# Altium footprint library Arduino_Duo_PCB___Ms.PcbLib: 1 footprints
Each footprint in its own frame and in the unit in brackets; x right, y up, seen from the top. Pads: shape width x height; smd on the part's side, far side on the other; paste and mask are expansions set on the pad; w line width, h text height; cw(c..) or ccw(c..) is an arc to the next point about the centre after c.
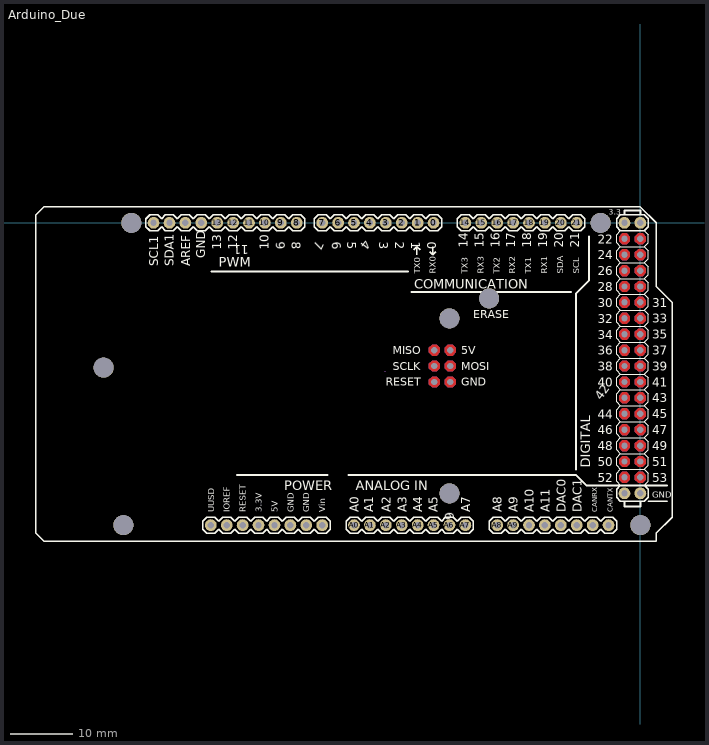
[diagram p0: the footprint, top view; thin cyan lines are the x and y axes]

## Arduino_Due [mil] "Arduino_Due"
pads (100):
  round 74 hole 40: 0(-1300,0) 1(-1400,0) 2(-1500,0) 3(-1600,0) 3.3V(-2400,-1900) 4(-1700,0) 5(-1800,0) 5V@0(-2300,-1900) 5V@1(-100,0) 5V@2(0,0) 6(-1900,0) 7(-2000,0) 8(-2160,0) 9(-2260,0) 10(-2360,0) 11(-2460,0) 12(-2560,0) 13(-2660,0) 14(-1100,0) 15(-1000,0) 16(-900,0) 17(-800,0) 18(-700,0) 19(-600,0) 20(-500,0) 21(-400,0) A0(-1800,-1900) A1(-1700,-1900) A2(-1600,-1900) A3(-1500,-1900) A4(-1400,-1900) A5(-1300,-1900) A6(-1200,-1900) A7(-1100,-1900) A8(-900,-1900) A9(-800,-1900) A10(-700,-1900) A11(-600,-1900) AREF(-2860,0) CANRX(-300,-1900) CANTX(-200,-1900) DAC0(-500,-1900) DAC1(-400,-1900) GND@0(-2200,-1900) GND@1(-2100,-1900) GND@2(-100,-1700) GND@3(0,-1700) GND@4(-2760,0) IOREF(-2600,-1900) RESET(-2500,-1900) SCL1(-3060,0) SDA1(-2960,0) UUSD(-2700,-1900) VIN(-2000,-1900)
  round 0 hole 40: 5V@ICSP(-1195,-800) 22(-100,-100) 23(0,-100) 24(-100,-200) 25(0,-200) 26(-100,-300) 27(0,-300) 28(-100,-400) 29(0,-400) 30(-100,-500) 31(0,-500) 32(-100,-600) 33(0,-600) 34(-100,-700) 35(0,-700) 36(-100,-800) 37(0,-800) 38(-100,-900) 39(0,-900) 40(-100,-1000) 41(0,-1000) 42(-100,-1100) 43(0,-1100) 44(-100,-1200) 45(0,-1200) 46(-100,-1300) 47(0,-1300) 48(-100,-1400) 49(0,-1400) 50(-100,-1500) 51(0,-1500) 52(-100,-1600) 53(0,-1600) GND@ICSP(-1195,-1000) MISO(-1295,-800) MOSI(-1195,-900) RESET@ICSP(-1295,-1000) SCLK(-1295,-900)
  round 125.98 hole 125.98 unplated: ""(-3374,-910) ""(-3250,-1900) ""(-3200,0) ""(-1200,-1700) ""(-1200,-600) ""(-950,-475) ""(-250,0) ""(0,-1900)
Top Layer:
  region: -14.16,-765.82 -34.19,-785.84 -34.19,-814.16 -14.16,-834.19 14.15,-834.19 34.18,-814.16 34.18,-785.84 14.15,-765.82
  region: -114.16,-765.82 -134.19,-785.84 -134.19,-814.16 -114.16,-834.19 -85.85,-834.19 -65.82,-814.16 -65.82,-785.84 -85.85,-765.82
  region: -14.16,-665.82 -34.19,-685.84 -34.19,-714.16 -14.16,-734.19 14.15,-734.19 34.18,-714.16 34.18,-685.84 14.15,-665.82
  region: -114.16,-665.82 -134.19,-685.84 -134.19,-714.16 -114.16,-734.19 -85.85,-734.19 -65.82,-714.16 -65.82,-685.84 -85.85,-665.82
  region: -14.16,-565.82 -34.19,-585.84 -34.19,-614.16 -14.16,-634.19 14.15,-634.19 34.18,-614.16 34.18,-585.84 14.15,-565.82
  region: -114.16,-565.82 -134.19,-585.84 -134.19,-614.16 -114.16,-634.19 -85.85,-634.19 -65.82,-614.16 -65.82,-585.84 -85.85,-565.82
  region: -14.16,-465.82 -34.19,-485.84 -34.19,-514.16 -14.16,-534.19 14.15,-534.19 34.18,-514.16 34.18,-485.84 14.15,-465.82
  region: -114.16,-465.82 -134.19,-485.84 -134.19,-514.16 -114.16,-534.19 -85.85,-534.19 -65.82,-514.16 -65.82,-485.84 -85.85,-465.82
  region: -14.16,-365.82 -34.19,-385.84 -34.19,-414.16 -14.16,-434.19 14.15,-434.19 34.18,-414.16 34.18,-385.84 14.15,-365.82
  region: -114.16,-365.82 -134.19,-385.84 -134.19,-414.16 -114.16,-434.19 -85.85,-434.19 -65.82,-414.16 -65.82,-385.84 -85.85,-365.82
  region: -14.16,-265.82 -34.19,-285.84 -34.19,-314.16 -14.16,-334.19 14.15,-334.19 34.18,-314.16 34.18,-285.84 14.15,-265.82
  region: -114.16,-265.82 -134.19,-285.84 -134.19,-314.16 -114.16,-334.19 -85.85,-334.19 -65.82,-314.16 -65.82,-285.84 -85.85,-265.82
  region: -14.16,-165.82 -34.19,-185.84 -34.19,-214.16 -14.16,-234.19 14.15,-234.19 34.18,-214.16 34.18,-185.84 14.15,-165.82
  region: -114.16,-165.82 -134.19,-185.84 -134.19,-214.16 -114.16,-234.19 -85.85,-234.19 -65.82,-214.16 -65.82,-185.84 -85.85,-165.82
  region: -14.16,-65.82 -34.19,-85.84 -34.19,-114.16 -14.16,-134.19 14.15,-134.19 34.18,-114.16 34.18,-85.84 14.15,-65.82
  region: -114.16,-65.82 -134.19,-85.84 -134.19,-114.16 -114.16,-134.19 -85.85,-134.19 -65.82,-114.16 -65.82,-85.84 -85.85,-65.82
  region: -14.16,-1565.82 -34.19,-1585.84 -34.19,-1614.16 -14.16,-1634.18 14.15,-1634.18 34.18,-1614.16 34.18,-1585.84 14.15,-1565.82
  region: -114.16,-1565.82 -134.19,-1585.84 -134.19,-1614.16 -114.16,-1634.18 -85.85,-1634.18 -65.82,-1614.16 -65.82,-1585.84 -85.85,-1565.82
  region: -14.16,-1465.82 -34.19,-1485.84 -34.19,-1514.16 -14.16,-1534.18 14.15,-1534.18 34.18,-1514.16 34.18,-1485.84 14.15,-1465.82
  region: -114.16,-1465.82 -134.19,-1485.84 -134.19,-1514.16 -114.16,-1534.18 -85.85,-1534.18 -65.82,-1514.16 -65.82,-1485.84 -85.85,-1465.82
  region: -14.16,-1365.82 -34.19,-1385.84 -34.19,-1414.16 -14.16,-1434.18 14.15,-1434.18 34.18,-1414.16 34.18,-1385.84 14.15,-1365.82
  region: -114.16,-1365.82 -134.19,-1385.84 -134.19,-1414.16 -114.16,-1434.18 -85.85,-1434.18 -65.82,-1414.16 -65.82,-1385.84 -85.85,-1365.82
  region: -14.16,-1265.82 -34.19,-1285.84 -34.19,-1314.16 -14.16,-1334.18 14.15,-1334.18 34.18,-1314.16 34.18,-1285.84 14.15,-1265.82
  region: -114.16,-1265.82 -134.19,-1285.84 -134.19,-1314.16 -114.16,-1334.18 -85.85,-1334.18 -65.82,-1314.16 -65.82,-1285.84 -85.85,-1265.82
  region: -14.16,-1165.82 -34.19,-1185.84 -34.19,-1214.16 -14.16,-1234.18 14.15,-1234.18 34.18,-1214.16 34.18,-1185.84 14.15,-1165.82
  region: -114.16,-1165.82 -134.19,-1185.84 -134.19,-1214.16 -114.16,-1234.18 -85.85,-1234.18 -65.82,-1214.16 -65.82,-1185.84 -85.85,-1165.82
  region: -14.16,-1065.82 -34.19,-1085.84 -34.19,-1114.16 -14.16,-1134.19 14.15,-1134.19 34.18,-1114.16 34.18,-1085.84 14.15,-1065.82
  region: -114.16,-1065.82 -134.19,-1085.84 -134.19,-1114.16 -114.16,-1134.19 -85.85,-1134.19 -65.82,-1114.16 -65.82,-1085.84 -85.85,-1065.82
  region: -14.16,-965.82 -34.19,-985.84 -34.19,-1014.16 -14.16,-1034.19 14.15,-1034.19 34.18,-1014.16 34.18,-985.84 14.15,-965.82
  region: -114.16,-965.82 -134.19,-985.84 -134.19,-1014.16 -114.16,-1034.19 -85.85,-1034.19 -65.82,-1014.16 -65.82,-985.84 -85.85,-965.82
  region: -14.16,-865.82 -34.19,-885.84 -34.19,-914.16 -14.16,-934.19 14.15,-934.19 34.18,-914.16 34.18,-885.84 14.15,-865.82
  region: -114.16,-865.82 -134.19,-885.84 -134.19,-914.16 -114.16,-934.19 -85.85,-934.19 -65.82,-914.16 -65.82,-885.84 -85.85,-865.82
  region: -1309.16,-765.82 -1329.19,-785.84 -1329.19,-814.16 -1309.16,-834.19 -1280.84,-834.19 -1260.82,-814.16 -1260.82,-785.84 -1280.84,-765.82
  region: -1209.16,-765.82 -1229.19,-785.84 -1229.19,-814.16 -1209.16,-834.19 -1180.84,-834.19 -1160.82,-814.16 -1160.82,-785.84 -1180.84,-765.82
  region: -1309.16,-865.82 -1329.19,-885.84 -1329.19,-914.16 -1309.16,-934.19 -1280.84,-934.19 -1260.82,-914.16 -1260.82,-885.84 -1280.84,-865.82
  region: -1209.16,-865.82 -1229.19,-885.84 -1229.19,-914.16 -1209.16,-934.19 -1180.84,-934.19 -1160.82,-914.16 -1160.82,-885.84 -1180.84,-865.82
  region: -1209.16,-965.82 -1229.19,-985.84 -1229.19,-1014.16 -1209.16,-1034.19 -1180.84,-1034.19 -1160.82,-1014.16 -1160.82,-985.84 -1180.84,-965.82
  region: -1309.16,-965.82 -1329.19,-985.84 -1329.19,-1014.16 -1309.16,-1034.19 -1280.84,-1034.19 -1260.82,-1014.16 -1260.82,-985.84 -1280.84,-965.82
Bottom Layer:
  region: -14.16,-765.82 -34.19,-785.84 -34.19,-814.16 -14.16,-834.19 14.15,-834.19 34.18,-814.16 34.18,-785.84 14.15,-765.82
  region: -114.16,-765.82 -134.19,-785.84 -134.19,-814.16 -114.16,-834.19 -85.85,-834.19 -65.82,-814.16 -65.82,-785.84 -85.85,-765.82
  region: -14.16,-665.82 -34.19,-685.84 -34.19,-714.16 -14.16,-734.19 14.15,-734.19 34.18,-714.16 34.18,-685.84 14.15,-665.82
  region: -114.16,-665.82 -134.19,-685.84 -134.19,-714.16 -114.16,-734.19 -85.85,-734.19 -65.82,-714.16 -65.82,-685.84 -85.85,-665.82
  region: -14.16,-565.82 -34.19,-585.84 -34.19,-614.16 -14.16,-634.19 14.15,-634.19 34.18,-614.16 34.18,-585.84 14.15,-565.82
  region: -114.16,-565.82 -134.19,-585.84 -134.19,-614.16 -114.16,-634.19 -85.85,-634.19 -65.82,-614.16 -65.82,-585.84 -85.85,-565.82
  region: -14.16,-465.82 -34.19,-485.84 -34.19,-514.16 -14.16,-534.19 14.15,-534.19 34.18,-514.16 34.18,-485.84 14.15,-465.82
  region: -114.16,-465.82 -134.19,-485.84 -134.19,-514.16 -114.16,-534.19 -85.85,-534.19 -65.82,-514.16 -65.82,-485.84 -85.85,-465.82
  region: -14.16,-365.82 -34.19,-385.84 -34.19,-414.16 -14.16,-434.19 14.15,-434.19 34.18,-414.16 34.18,-385.84 14.15,-365.82
  region: -114.16,-365.82 -134.19,-385.84 -134.19,-414.16 -114.16,-434.19 -85.85,-434.19 -65.82,-414.16 -65.82,-385.84 -85.85,-365.82
  region: -14.16,-265.82 -34.19,-285.84 -34.19,-314.16 -14.16,-334.19 14.15,-334.19 34.18,-314.16 34.18,-285.84 14.15,-265.82
  region: -114.16,-265.82 -134.19,-285.84 -134.19,-314.16 -114.16,-334.19 -85.85,-334.19 -65.82,-314.16 -65.82,-285.84 -85.85,-265.82
  region: -14.16,-165.82 -34.19,-185.84 -34.19,-214.16 -14.16,-234.19 14.15,-234.19 34.18,-214.16 34.18,-185.84 14.15,-165.82
  region: -114.16,-165.82 -134.19,-185.84 -134.19,-214.16 -114.16,-234.19 -85.85,-234.19 -65.82,-214.16 -65.82,-185.84 -85.85,-165.82
  region: -14.16,-65.82 -34.19,-85.84 -34.19,-114.16 -14.16,-134.19 14.15,-134.19 34.18,-114.16 34.18,-85.84 14.15,-65.82
  region: -114.16,-65.82 -134.19,-85.84 -134.19,-114.16 -114.16,-134.19 -85.85,-134.19 -65.82,-114.16 -65.82,-85.84 -85.85,-65.82
  region: -14.16,-1565.82 -34.19,-1585.84 -34.19,-1614.16 -14.16,-1634.18 14.15,-1634.18 34.18,-1614.16 34.18,-1585.84 14.15,-1565.82
  region: -114.16,-1565.82 -134.19,-1585.84 -134.19,-1614.16 -114.16,-1634.18 -85.85,-1634.18 -65.82,-1614.16 -65.82,-1585.84 -85.85,-1565.82
  region: -14.16,-1465.82 -34.19,-1485.84 -34.19,-1514.16 -14.16,-1534.18 14.15,-1534.18 34.18,-1514.16 34.18,-1485.84 14.15,-1465.82
  region: -114.16,-1465.82 -134.19,-1485.84 -134.19,-1514.16 -114.16,-1534.18 -85.85,-1534.18 -65.82,-1514.16 -65.82,-1485.84 -85.85,-1465.82
  region: -14.16,-1365.82 -34.19,-1385.84 -34.19,-1414.16 -14.16,-1434.18 14.15,-1434.18 34.18,-1414.16 34.18,-1385.84 14.15,-1365.82
  region: -114.16,-1365.82 -134.19,-1385.84 -134.19,-1414.16 -114.16,-1434.18 -85.85,-1434.18 -65.82,-1414.16 -65.82,-1385.84 -85.85,-1365.82
  region: -14.16,-1265.82 -34.19,-1285.84 -34.19,-1314.16 -14.16,-1334.18 14.15,-1334.18 34.18,-1314.16 34.18,-1285.84 14.15,-1265.82
  region: -114.16,-1265.82 -134.19,-1285.84 -134.19,-1314.16 -114.16,-1334.18 -85.85,-1334.18 -65.82,-1314.16 -65.82,-1285.84 -85.85,-1265.82
  region: -14.16,-1165.82 -34.19,-1185.84 -34.19,-1214.16 -14.16,-1234.18 14.15,-1234.18 34.18,-1214.16 34.18,-1185.84 14.15,-1165.82
  region: -114.16,-1165.82 -134.19,-1185.84 -134.19,-1214.16 -114.16,-1234.18 -85.85,-1234.18 -65.82,-1214.16 -65.82,-1185.84 -85.85,-1165.82
  region: -14.16,-1065.82 -34.19,-1085.84 -34.19,-1114.16 -14.16,-1134.19 14.15,-1134.19 34.18,-1114.16 34.18,-1085.84 14.15,-1065.82
  region: -114.16,-1065.82 -134.19,-1085.84 -134.19,-1114.16 -114.16,-1134.19 -85.85,-1134.19 -65.82,-1114.16 -65.82,-1085.84 -85.85,-1065.82
  region: -14.16,-965.82 -34.19,-985.84 -34.19,-1014.16 -14.16,-1034.19 14.15,-1034.19 34.18,-1014.16 34.18,-985.84 14.15,-965.82
  region: -114.16,-965.82 -134.19,-985.84 -134.19,-1014.16 -114.16,-1034.19 -85.85,-1034.19 -65.82,-1014.16 -65.82,-985.84 -85.85,-965.82
  region: -14.16,-865.82 -34.19,-885.84 -34.19,-914.16 -14.16,-934.19 14.15,-934.19 34.18,-914.16 34.18,-885.84 14.15,-865.82
  region: -114.16,-865.82 -134.19,-885.84 -134.19,-914.16 -114.16,-934.19 -85.85,-934.19 -65.82,-914.16 -65.82,-885.84 -85.85,-865.82
  region: -1309.16,-765.82 -1329.19,-785.84 -1329.19,-814.16 -1309.16,-834.19 -1280.84,-834.19 -1260.82,-814.16 -1260.82,-785.84 -1280.84,-765.82
  region: -1209.16,-765.82 -1229.19,-785.84 -1229.19,-814.16 -1209.16,-834.19 -1180.84,-834.19 -1160.82,-814.16 -1160.82,-785.84 -1180.84,-765.82
  region: -1309.16,-865.82 -1329.19,-885.84 -1329.19,-914.16 -1309.16,-934.19 -1280.84,-934.19 -1260.82,-914.16 -1260.82,-885.84 -1280.84,-865.82
  region: -1209.16,-865.82 -1229.19,-885.84 -1229.19,-914.16 -1209.16,-934.19 -1180.84,-934.19 -1160.82,-914.16 -1160.82,-885.84 -1180.84,-865.82
  region: -1209.16,-965.82 -1229.19,-985.84 -1229.19,-1014.16 -1209.16,-1034.19 -1180.84,-1034.19 -1160.82,-1014.16 -1160.82,-985.84 -1180.84,-965.82
  region: -1309.16,-965.82 -1329.19,-985.84 -1329.19,-1014.16 -1309.16,-1034.19 -1280.84,-1034.19 -1260.82,-1014.16 -1260.82,-985.84 -1280.84,-965.82
Top Overlay:
  drawing of 477 lines, arcs and shapes, not listed
  text "0" at -1341,-120 h56
  text "1" at -1441,-120 h56
  text "2" at -1541,-120 h56
  text "3" at -1641,-120 h56
  text "4" at -1735.65,-103.54 h56
  text "5" at -1841,-120 h56
  text "6" at -1940.89,-122.44 h56
  text "7" at -2038.38,-108.17 h56
  text "8" at -2191,-120 h56
  text "9" at -2290.89,-122.44 h56
  text "10" at -2335,-170 h56
  text "11" at -2463,-142 h56
  text "12" at -2535,-170 h56
  text "13" at -2635,-170 h56
  text "14" at -1085,-155 h56
  text "15" at -985,-155 h56
  text "16" at -885,-155 h56
  text "17" at -785,-155 h56
  text "18" at -685,-155 h56
  text "19" at -585,-155 h56
  text "20" at -485,-155 h56
  text "21" at -385,-155 h56
  text "22" at -269,-130 h56
  text "24" at -269,-230 h56
  text "26" at -269,-330 h56
  text "28" at -269,-430 h56
  text "30" at -269,-530 h56
  text "32" at -269,-630 h56
  text "34" at -269,-730 h56
  text "36" at -269,-830 h56
  text "38" at -269,-930 h56
  text "40" at -269,-1030 h56
  text "42" at -246.35,-1118.46 h56
  text "44" at -269,-1230 h56
  text "46" at -269,-1330 h56
  text "50" at -269,-1530 h56
  text "48" at -269,-1430 h56
  text "52" at -269,-1630 h56
  text "31" at 75,-529 h56
  text "33" at 75,-629 h56
  text "35" at 75,-729 h56
  text "37" at 75,-829 h56
  text "39" at 75,-929 h56
  text "41" at 75,-1029 h56
  text "43" at 75,-1129 h56
  text "45" at 75,-1229 h56
  text "47" at 75,-1329 h56
  text "49" at 75,-1429 h56
  text "51" at 75,-1529 h56
  text "53" at 75,-1629 h56
  text "A0" at -1770,-1819 h56
  text "A1" at -1680,-1819 h56
  text "A2" at -1570,-1819 h56
  text "A3" at -1470,-1819 h56
  text "A4" at -1370,-1819 h56
  text "A5" at -1275,-1819 h56
  text "6" at -1230.89,-1821.44 h56
  text "A7" at -1070,-1819 h56
  text "A8" at -870,-1819 h56
  text "A9" at -770,-1819 h56
  text "A10" at -670,-1819 h56
  text "A11" at -570,-1819 h56
  text "DAC0" at -470,-1819 h56
  text "DAC1" at -370,-1819 h56
  text "CANRX" at -270,-1819 h32
  text "CANTX" at -175,-1819 h32
  text "ANALOG IN" at -1790,-1680 h60
  text "COMMUNICATION" at -1420,-415 h60
  text "DIGITAL" at -315,-1540 h60
  text "GND" at 75,-1729 h40
  text "TX0" at -1385,-320 h40
  text "RX0" at -1285,-320 h40
  text "PWM" at -2650,-275 h60
  text "TX3" at -1085,-320 h40
  text "RX3" at -985,-320 h40
  text "TX2" at -885,-320 h40
  text "RX2" at -785,-320 h40
  text "TX1" at -685,-320 h40
  text "RX1" at -585,-320 h40
  text "SDA" at -485,-320 h40
  text "SCL" at -385,-320 h40
  text "POWER" at -2240,-1680 h60
  text "RESET" at -2480,-1819 h40
  text "3.3V" at -2380,-1819 h40
  text "5V" at -2280,-1819 h40
  text "GND" at -2180,-1819 h40
  text "GND" at -2080,-1819 h40
  text "Vin" at -1980,-1819 h40
  text "GND" at -2734,-221.2 h56
  text "AREF" at -2829,-271.6 h56
  text "3.3" at -200,50 h35
  text "SDA1" at -2934,-271.6 h56
  text "SCL1" at -3029,-271.6 h56
  text "IOREF" at -2580,-1819 h40
  text "UUSD" at -2680,-1819 h40
  text "ERASE" at -1050,-600 h50
  text "5V" at -1125,-825 h50
  text "MOSI" at -1125,-925 h50
  text "GND" at -1125,-1025 h50
  text "RESET" at -1600,-1025 h50
  text "SCLK" at -1555,-925 h50
  text "MISO" at -1555,-825 h50
Top Paste:
  drawing of 38 lines, arcs and shapes, not listed
Bottom Paste:
  drawing of 38 lines, arcs and shapes, not listed
Top Solder:
  drawing of 38 lines, arcs and shapes, not listed
Bottom Solder:
  drawing of 38 lines, arcs and shapes, not listed
Mechanical 15:
  lines w0.1: -1604.5,-935 -1602.5,-933